# Altium footprint library CONN_B2B.PcbLib: 36 footprints (part 2 of 3)
Each footprint in its own frame and in the unit in brackets; x right, y up, seen from the top. Pads: shape width x height; smd on the part's side, far side on the other; paste and mask are expansions set on the pad; w line width, h text height; cw(c..) or ccw(c..) is an arc to the next point about the centre after c.
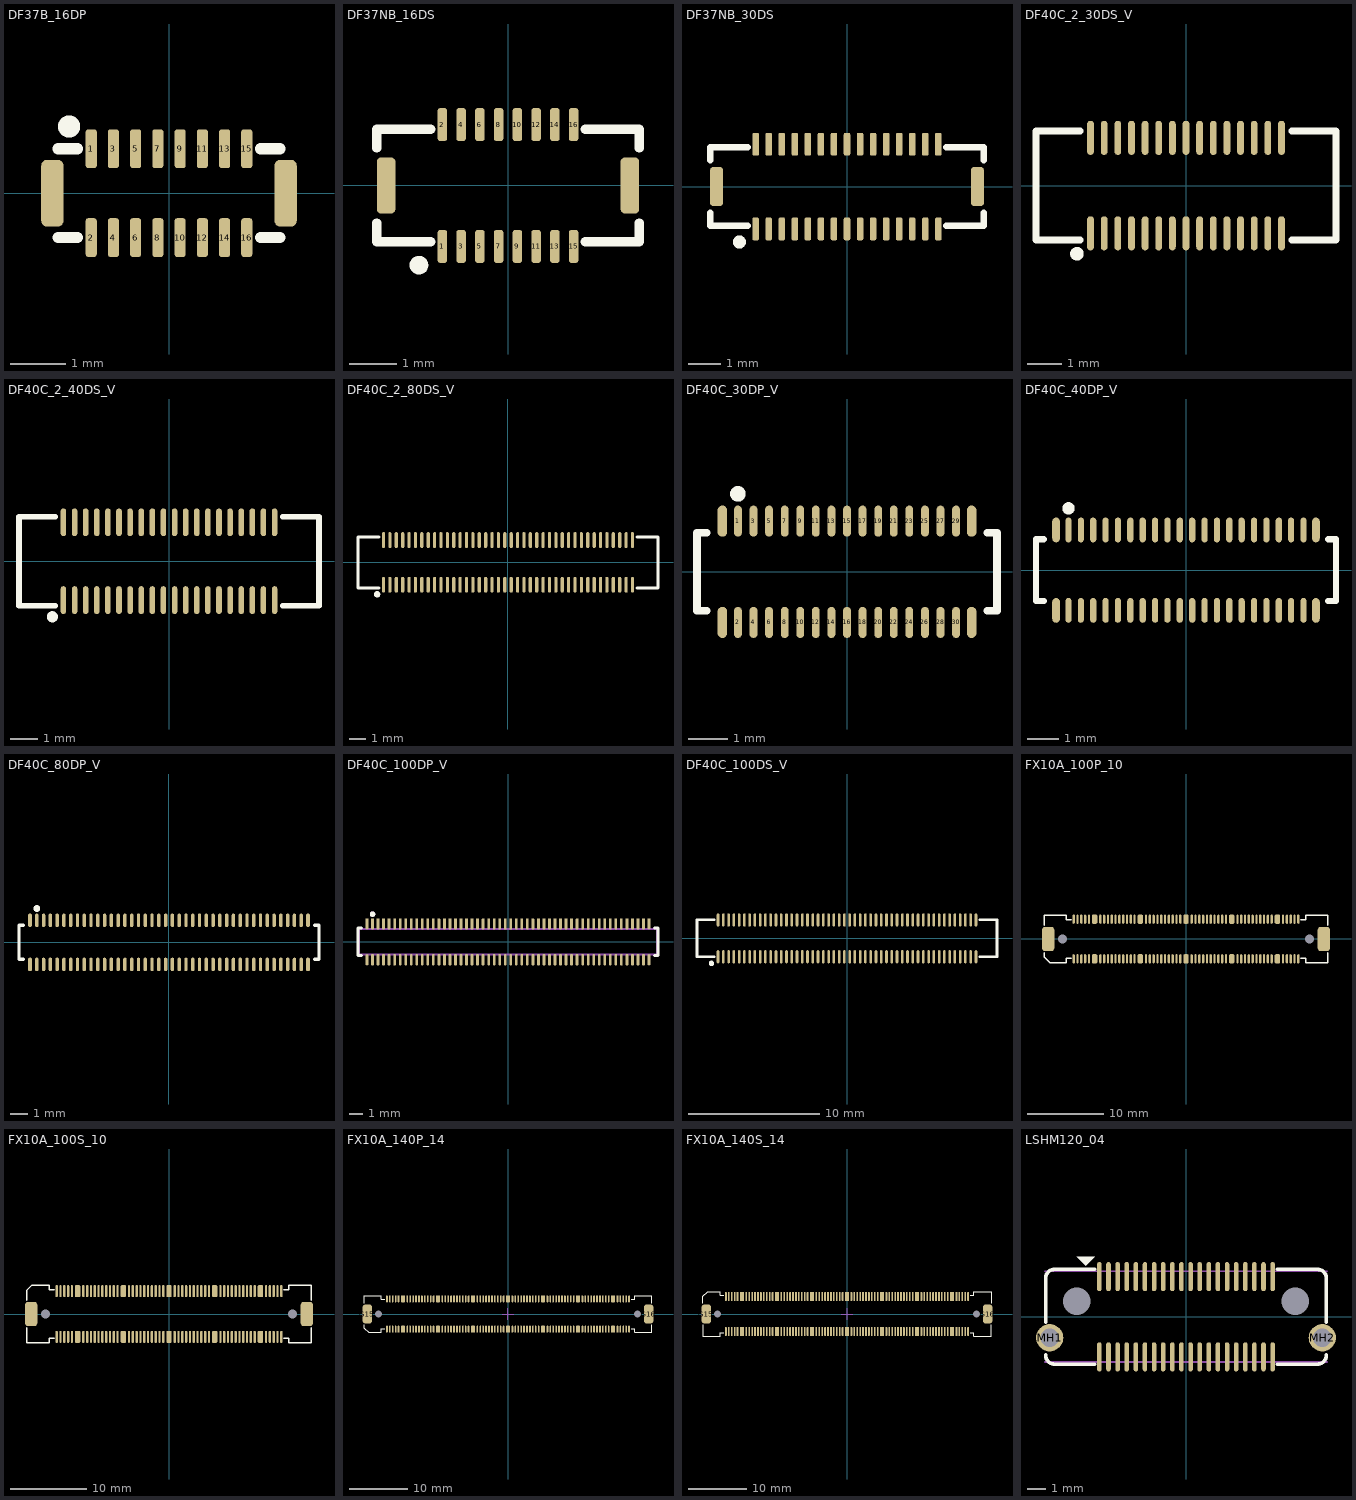
[diagram p1: the footprints below, top view; thin cyan lines are the x and y axes]

## DF37B_16DP [mm] "DF37B-16DP-0.4V"
height 1
pads (18):
  rrect50% 0.2x0.7 smd mask+0.05: 1(-1.4,0.8) 2(-1.4,-0.8) 3(-1,0.8) 4(-1,-0.8) 5(-0.6,0.8) 6(-0.6,-0.8) 7(-0.2,0.8) 8(-0.2,-0.8) 9(0.2,0.8) 10(0.2,-0.8) 11(0.6,0.8) 12(0.6,-0.8) 13(1,0.8) 14(1,-0.8) 15(1.4,0.8) 16(1.4,-0.8)
  rrect50% 0.4x1.2 smd: ""(-2.1,0) ""(2.1,0)
Top Overlay:
  circle w0.2: c-1.8,1.2 r0.1
  lines w0.2: -2,-0.8 -1.65,-0.8 ; -2,0.8 -1.65,0.8 ; 1.65,-0.8 2,-0.8 ; 1.65,0.8 2,0.8
3D body "DF37B-16DP-0.4V.stp": height 0.77, standoff 0.01, extent -2.165,-0.99 2.175,0.99

## DF37NB_16DS [mm] "DF37NB-16DS"
height 1
pads (18):
  rrect50% 0.2x0.7 smd mask+0.05: 1(-1.4,-1.3) 2(-1.4,1.3) 3(-1,-1.3) 4(-1,1.3) 5(-0.6,-1.3) 6(-0.6,1.3) 7(-0.2,-1.3) 8(-0.2,1.3) 9(0.2,-1.3) 10(0.2,1.3) 11(0.6,-1.3) 12(0.6,1.3) 13(1,-1.3) 14(1,1.3) 15(1.4,-1.3) 16(1.4,1.3)
  rrect50% 0.4x1.2 smd: ""(-2.6,0) ""(2.6,0)
Top Overlay:
  circle w0.2: c-1.9,-1.7 r0.1
  lines w0.2: -2.8,-0.8 -2.8,-1.2 -1.65,-1.2 ; -2.8,0.8 -2.8,1.2 -1.65,1.2 ; 1.65,-1.2 2.8,-1.2 2.8,-0.8 ; 1.65,1.2 2.8,1.2 2.8,0.8
3D body "DF37NB-16DS-0.4V.stp": height 0.97, standoff -0.01, extent -2.71,-1.5 2.71,1.48

## DF37NB_30DS [mm] "DF37NB-30DS"
height 1
pads (32):
  rrect50% 0.2x0.7 smd mask+0.05: 1(-2.8,-1.3) 2(-2.8,1.3) 3(-2.4,-1.3) 4(-2.4,1.3) 5(-2,-1.3) 6(-2,1.3) 7(-1.6,-1.3) 8(-1.6,1.3) 9(-1.2,-1.3) 10(-1.2,1.3) 11(-0.8,-1.3) 12(-0.8,1.3) 13(-0.4,-1.3) 14(-0.4,1.3) 15(0,-1.3) 16(0,1.3) 17(0.4,-1.3) 18(0.4,1.3) 19(0.8,-1.3) 20(0.8,1.3) 21(1.2,-1.3) 22(1.2,1.3) 23(1.6,-1.3) 24(1.6,1.3) 25(2,-1.3) 26(2,1.3) 27(2.4,-1.3) 28(2.4,1.3) 29(2.8,-1.3) 30(2.8,1.3)
  rrect50% 0.4x1.2 smd: ""(-4,0) ""(4,0)
Top Overlay:
  circle w0.2: c-3.3,-1.7 r0.1
  lines w0.2: -4.2,-0.8 -4.2,-1.2 -3.05,-1.2 ; -4.2,0.8 -4.2,1.2 -3.05,1.2 ; 3.05,-1.2 4.2,-1.2 4.2,-0.8 ; 3.05,1.2 4.2,1.2 4.2,0.8
3D body "DF37NB-30DS-0.4V.stp": height 0.97, standoff -0.01, extent -4.12,-1.49 4.1,1.49

## DF40C_2_30DS_V [mm] "CONN_DF40C, DF40C(2.0)- 30DS-0.4V(51)"
pads (30):
  oval 0.2x1 smd mask+0.05: 1(-2.8,-1.4) 2(-2.8,1.4) 3(-2.4,-1.4) 4(-2.4,1.4) 5(-2,-1.4) 6(-2,1.4) 7(-1.6,-1.4) 8(-1.6,1.4) 9(-1.2,-1.4) 10(-1.2,1.4) 11(-0.8,-1.4) 12(-0.8,1.4) 13(-0.4,-1.4) 14(-0.4,1.4) 15(0,-1.4) 16(0,1.4) 17(0.4,-1.4) 18(0.4,1.4) 19(0.8,-1.4) 20(0.8,1.4) 21(1.2,-1.4) 22(1.2,1.4) 23(1.6,-1.4) 24(1.6,1.4) 25(2,-1.4) 26(2,1.4) 27(2.4,-1.4) 28(2.4,1.4) 29(2.8,-1.4) 30(2.8,1.4)
Top Overlay:
  circle w0.2: c-3.2,-2 r0.1
  lines w0.2: -3.1,-1.6 -4.4,-1.6 -4.4,1.6 -3.1,1.6 ; 3.1,-1.6 4.4,-1.6 4.4,1.6 3.1,1.6
3D body "DF40C(2.0)-30DS-0.4V.stp": height 1.95, standoff 0, extent -4.3,-1.68 4.3,1.7

## DF40C_2_40DS_V [mm] "CONN_DF40C, DF40C(2.0)- 40DS-0.4V(51)"
pads (40):
  oval 0.2x1 smd mask+0.05: 1(-3.8,-1.4) 2(-3.8,1.4) 3(-3.4,-1.4) 4(-3.4,1.4) 5(-3,-1.4) 6(-3,1.4) 7(-2.6,-1.4) 8(-2.6,1.4) 9(-2.2,-1.4) 10(-2.2,1.4) 11(-1.8,-1.4) 12(-1.8,1.4) 13(-1.4,-1.4) 14(-1.4,1.4) 15(-1,-1.4) 16(-1,1.4) 17(-0.6,-1.4) 18(-0.6,1.4) 19(-0.2,-1.4) 20(-0.2,1.4) 21(0.2,-1.4) 22(0.2,1.4) 23(0.6,-1.4) 24(0.6,1.4) 25(1,-1.4) 26(1,1.4) 27(1.4,-1.4) 28(1.4,1.4) 29(1.8,-1.4) 30(1.8,1.4) 31(2.2,-1.4) 32(2.2,1.4) 33(2.6,-1.4) 34(2.6,1.4) 35(3,-1.4) 36(3,1.4) 37(3.4,-1.4) 38(3.4,1.4) 39(3.8,-1.4) 40(3.8,1.4)
Top Overlay:
  circle w0.2: c-4.2,-2 r0.1
  lines w0.2: -4.1,-1.6 -5.4,-1.6 -5.4,1.6 -4.1,1.6 ; 4.1,-1.6 5.4,-1.6 5.4,1.6 4.1,1.6
3D body "DF40C(2.0)-40DS-0.4V.stp": height 1.95, standoff 0, extent -5.3,-1.7 5.3,1.68

## DF40C_2_80DS_V [mm] "CONN_DF40C, DF40C(2.0)- 80DS-0.4V(51)"
pads (80):
  oval 0.2x1 smd mask+0.05: 1(-7.8,-1.4) 2(-7.8,1.4) 3(-7.4,-1.4) 4(-7.4,1.4) 5(-7,-1.4) 6(-7,1.4) 7(-6.6,-1.4) 8(-6.6,1.4) 9(-6.2,-1.4) 10(-6.2,1.4) 11(-5.8,-1.4) 12(-5.8,1.4) 13(-5.4,-1.4) 14(-5.4,1.4) 15(-5,-1.4) 16(-5,1.4) 17(-4.6,-1.4) 18(-4.6,1.4) 19(-4.2,-1.4) 20(-4.2,1.4) 21(-3.8,-1.4) 22(-3.8,1.4) 23(-3.4,-1.4) 24(-3.4,1.4) 25(-3,-1.4) 26(-3,1.4) 27(-2.6,-1.4) 28(-2.6,1.4) 29(-2.2,-1.4) 30(-2.2,1.4) 31(-1.8,-1.4) 32(-1.8,1.4) 33(-1.4,-1.4) 34(-1.4,1.4) 35(-1,-1.4) 36(-1,1.4) 37(-0.6,-1.4) 38(-0.6,1.4) 39(-0.2,-1.4) 40(-0.2,1.4) 41(0.2,-1.4) 42(0.2,1.4) 43(0.6,-1.4) 44(0.6,1.4) 45(1,-1.4) 46(1,1.4) 47(1.4,-1.4) 48(1.4,1.4) 49(1.8,-1.4) 50(1.8,1.4) 51(2.2,-1.4) 52(2.2,1.4) 53(2.6,-1.4) 54(2.6,1.4) 55(3,-1.4) 56(3,1.4) 57(3.4,-1.4) 58(3.4,1.4) 59(3.8,-1.4) 60(3.8,1.4) 61(4.2,-1.4) 62(4.2,1.4) 63(4.6,-1.4) 64(4.6,1.4) 65(5,-1.4) 66(5,1.4) 67(5.4,-1.4) 68(5.4,1.4) 69(5.8,-1.4) 70(5.8,1.4) 71(6.2,-1.4) 72(6.2,1.4) 73(6.6,-1.4) 74(6.6,1.4) 75(7,-1.4) 76(7,1.4) 77(7.4,-1.4) 78(7.4,1.4) 79(7.8,-1.4) 80(7.8,1.4)
Top Overlay:
  circle w0.2: c-8.2,-2 r0.1
  lines w0.2: -8.1,-1.6 -9.4,-1.6 -9.4,1.6 -8.1,1.6 ; 8.1,-1.6 9.4,-1.6 9.4,1.6 8.1,1.6
3D body "DF40C(2.0)-80DS.stp": height 1.94, standoff 0, extent -9.305,-1.69 9.295,1.69

## DF40C_30DP_V [mm] "CONN_DF40C, DF40C- 30DP-0.4V(51)"
pads (34):
  oval 0.2x0.8 smd mask+0.05: 1(-2.8,1.3) 2(-2.8,-1.3) 3(-2.4,1.3) 4(-2.4,-1.3) 5(-2,1.3) 6(-2,-1.3) 7(-1.6,1.3) 8(-1.6,-1.3) 9(-1.2,1.3) 10(-1.2,-1.3) 11(-0.8,1.3) 12(-0.8,-1.3) 13(-0.4,1.3) 14(-0.4,-1.3) 15(0,1.3) 16(0,-1.3) 17(0.4,1.3) 18(0.4,-1.3) 19(0.8,1.3) 20(0.8,-1.3) 21(1.2,1.3) 22(1.2,-1.3) 23(1.6,1.3) 24(1.6,-1.3) 25(2,1.3) 26(2,-1.3) 27(2.4,1.3) 28(2.4,-1.3) 29(2.8,1.3) 30(2.8,-1.3)
  oval 0.25x0.8 smd mask+0.05: ""(-3.2,-1.3) ""(-3.2,1.3) ""(3.2,-1.3) ""(3.2,1.3)
Top Overlay:
  circle w0.2: c-2.8,2 r0.1
  lines w0.2: -3.6,-1 -3.85,-1 -3.85,1 -3.6,1 ; 3.6,-1 3.85,-1 3.85,1 3.6,1
3D body "DF40C-30DP.stp": height 1.14, standoff 0, extent -3.76,-1.497 3.76,1.473

## DF40C_40DP_V [mm] "CONN_DF40C, DF40C- 40DP-0.4V(51)"
pads (44):
  oval 0.2x0.8 smd mask+0.05: 1(-3.8,1.3) 2(-3.8,-1.3) 3(-3.4,1.3) 4(-3.4,-1.3) 5(-3,1.3) 6(-3,-1.3) 7(-2.6,1.3) 8(-2.6,-1.3) 9(-2.2,1.3) 10(-2.2,-1.3) 11(-1.8,1.3) 12(-1.8,-1.3) 13(-1.4,1.3) 14(-1.4,-1.3) 15(-1,1.3) 16(-1,-1.3) 17(-0.6,1.3) 18(-0.6,-1.3) 19(-0.2,1.3) 20(-0.2,-1.3) 21(0.2,1.3) 22(0.2,-1.3) 23(0.6,1.3) 24(0.6,-1.3) 25(1,1.3) 26(1,-1.3) 27(1.4,1.3) 28(1.4,-1.3) 29(1.8,1.3) 30(1.8,-1.3) 31(2.2,1.3) 32(2.2,-1.3) 33(2.6,1.3) 34(2.6,-1.3) 35(3,1.3) 36(3,-1.3) 37(3.4,1.3) 38(3.4,-1.3) 39(3.8,1.3) 40(3.8,-1.3)
  oval 0.25x0.8 smd mask+0.05: ""(-4.2,-1.3) ""(-4.2,1.3) ""(4.2,-1.3) ""(4.2,1.3)
Top Overlay:
  circle w0.2: c-3.8,2 r0.1
  lines w0.2: -4.6,-1 -4.85,-1 -4.85,1 -4.6,1 ; 4.6,-1 4.85,-1 4.85,1 4.6,1
3D body "DF40C-40DP.stp": height 1.14, standoff 0, extent -4.76,-1.495 4.76,1.475

## DF40C_80DP_V [mm] "CONN_DF40C, DF40C-80DP-0.4V(51)"
pads (84):
  oval 0.2x0.8 smd mask+0.05: 1(-7.8,1.3) 2(-7.8,-1.3) 3(-7.4,1.3) 4(-7.4,-1.3) 5(-7,1.3) 6(-7,-1.3) 7(-6.6,1.3) 8(-6.6,-1.3) 9(-6.2,1.3) 10(-6.2,-1.3) 11(-5.8,1.3) 12(-5.8,-1.3) 13(-5.4,1.3) 14(-5.4,-1.3) 15(-5,1.3) 16(-5,-1.3) 17(-4.6,1.3) 18(-4.6,-1.3) 19(-4.2,1.3) 20(-4.2,-1.3) 21(-3.8,1.3) 22(-3.8,-1.3) 23(-3.4,1.3) 24(-3.4,-1.3) 25(-3,1.3) 26(-3,-1.3) 27(-2.6,1.3) 28(-2.6,-1.3) 29(-2.2,1.3) 30(-2.2,-1.3) 31(-1.8,1.3) 32(-1.8,-1.3) 33(-1.4,1.3) 34(-1.4,-1.3) 35(-1,1.3) 36(-1,-1.3) 37(-0.6,1.3) 38(-0.6,-1.3) 39(-0.2,1.3) 40(-0.2,-1.3) 41(0.2,1.3) 42(0.2,-1.3) 43(0.6,1.3) 44(0.6,-1.3) 45(1,1.3) 46(1,-1.3) 47(1.4,1.3) 48(1.4,-1.3) 49(1.8,1.3) 50(1.8,-1.3) 51(2.2,1.3) 52(2.2,-1.3) 53(2.6,1.3) 54(2.6,-1.3) 55(3,1.3) 56(3,-1.3) 57(3.4,1.3) 58(3.4,-1.3) 59(3.8,1.3) 60(3.8,-1.3) 61(4.2,1.3) 62(4.2,-1.3) 63(4.6,1.3) 64(4.6,-1.3) 65(5,1.3) 66(5,-1.3) 67(5.4,1.3) 68(5.4,-1.3) 69(5.8,1.3) 70(5.8,-1.3) 71(6.2,1.3) 72(6.2,-1.3) 73(6.6,1.3) 74(6.6,-1.3) 75(7,1.3) 76(7,-1.3) 77(7.4,1.3) 78(7.4,-1.3) 79(7.8,1.3) 80(7.8,-1.3)
  oval 0.25x0.8 smd mask+0.05: ""(-8.2,-1.3) ""(-8.2,1.3) ""(8.2,-1.3) ""(8.2,1.3)
Top Overlay:
  circle w0.2: c-7.8,2 r0.1
  lines w0.2: -8.6,-1 -8.85,-1 -8.85,1 -8.6,1 ; 8.6,-1 8.85,-1 8.85,1 8.6,1
3D body "DF40C-80DP.stp": height 1.14, standoff 0, extent -8.76,-1.5 8.76,1.47

## DF40C_100DP_V [mm] "CONN_DF40C, DF40C-100DP-0.4V"
pads (104):
  rrect50% 0.2x0.8 smd mask+0.05: 1(-9.8,1.3) 2(-9.8,-1.3) 3(-9.4,1.3) 4(-9.4,-1.3) 5(-9,1.3) 6(-9,-1.3) 7(-8.6,1.3) 8(-8.6,-1.3) 9(-8.2,1.3) 10(-8.2,-1.3) 11(-7.8,1.3) 12(-7.8,-1.3) 13(-7.4,1.3) 14(-7.4,-1.3) 15(-7,1.3) 16(-7,-1.3) 17(-6.6,1.3) 18(-6.6,-1.3) 19(-6.2,1.3) 20(-6.2,-1.3) 21(-5.8,1.3) 22(-5.8,-1.3) 23(-5.4,1.3) 24(-5.4,-1.3) 25(-5,1.3) 26(-5,-1.3) 27(-4.6,1.3) 28(-4.6,-1.3) 29(-4.2,1.3) 30(-4.2,-1.3) 31(-3.8,1.3) 32(-3.8,-1.3) 33(-3.4,1.3) 34(-3.4,-1.3) 35(-3,1.3) 36(-3,-1.3) 37(-2.6,1.3) 38(-2.6,-1.3) 39(-2.2,1.3) 40(-2.2,-1.3) 41(-1.8,1.3) 42(-1.8,-1.3) 43(-1.4,1.3) 44(-1.4,-1.3) 45(-1,1.3) 46(-1,-1.3) 47(-0.6,1.3) 48(-0.6,-1.3) 49(-0.2,1.3) 50(-0.2,-1.3) 51(0.2,1.3) 52(0.2,-1.3) 53(0.6,1.3) 54(0.6,-1.3) 55(1,1.3) 56(1,-1.3) 57(1.4,1.3) 58(1.4,-1.3) 59(1.8,1.3) 60(1.8,-1.3) 61(2.2,1.3) 62(2.2,-1.3) 63(2.6,1.3) 64(2.6,-1.3) 65(3,1.3) 66(3,-1.3) 67(3.4,1.3) 68(3.4,-1.3) 69(3.8,1.3) 70(3.8,-1.3) 71(4.2,1.3) 72(4.2,-1.3) 73(4.6,1.3) 74(4.6,-1.3) 75(5,1.3) 76(5,-1.3) 77(5.4,1.3) 78(5.4,-1.3) 79(5.8,1.3) 80(5.8,-1.3) 81(6.2,1.3) 82(6.2,-1.3) 83(6.6,1.3) 84(6.6,-1.3) 85(7,1.3) 86(7,-1.3) 87(7.4,1.3) 88(7.4,-1.3) 89(7.8,1.3) 90(7.8,-1.3) 91(8.2,1.3) 92(8.2,-1.3) 93(8.6,1.3) 94(8.6,-1.3) 95(9,1.3) 96(9,-1.3) 97(9.4,1.3) 98(9.4,-1.3) 99(9.8,1.3) 100(9.8,-1.3)
  oval 0.25x0.8 smd mask+0.05: ""(-10.2,-1.3) ""(-10.2,1.3) ""(10.2,-1.3) ""(10.2,1.3)
Top Overlay:
  circle w0.2: c-9.8,2 r0.1
  lines w0.2: -10.6,-1 -10.85,-1 -10.85,1 -10.6,1 ; 10.6,-1 10.85,-1 10.85,1 10.6,1
Mechanical 13:
  circle w0.2: c-9.8,2 r0.1
  lines w0.127: -10.76,-0.925 10.76,-0.925 10.76,0.925 -10.76,0.925 -10.76,-0.925
3D body "DF40C-100DP.stp": height 1.14, standoff 0, extent -10.76,-1.5 10.76,1.47

## DF40C_100DS_V [mm] "CONN_DF40C, DF40C- 100DS-0.4V(51)"
pads (100):
  oval 0.2x1 smd mask+0.05: 1(-9.8,-1.4) 2(-9.8,1.4) 3(-9.4,-1.4) 4(-9.4,1.4) 5(-9,-1.4) 6(-9,1.4) 7(-8.6,-1.4) 8(-8.6,1.4) 9(-8.2,-1.4) 10(-8.2,1.4) 11(-7.8,-1.4) 12(-7.8,1.4) 13(-7.4,-1.4) 14(-7.4,1.4) 15(-7,-1.4) 16(-7,1.4) 17(-6.6,-1.4) 18(-6.6,1.4) 19(-6.2,-1.4) 20(-6.2,1.4) 21(-5.8,-1.4) 22(-5.8,1.4) 23(-5.4,-1.4) 24(-5.4,1.4) 25(-5,-1.4) 26(-5,1.4) 27(-4.6,-1.4) 28(-4.6,1.4) 29(-4.2,-1.4) 30(-4.2,1.4) 31(-3.8,-1.4) 32(-3.8,1.4) 33(-3.4,-1.4) 34(-3.4,1.4) 35(-3,-1.4) 36(-3,1.4) 37(-2.6,-1.4) 38(-2.6,1.4) 39(-2.2,-1.4) 40(-2.2,1.4) 41(-1.8,-1.4) 42(-1.8,1.4) 43(-1.4,-1.4) 44(-1.4,1.4) 45(-1,-1.4) 46(-1,1.4) 47(-0.6,-1.4) 48(-0.6,1.4) 49(-0.2,-1.4) 50(-0.2,1.4) 51(0.2,-1.4) 52(0.2,1.4) 53(0.6,-1.4) 54(0.6,1.4) 55(1,-1.4) 56(1,1.4) 57(1.4,-1.4) 58(1.4,1.4) 59(1.8,-1.4) 60(1.8,1.4) 61(2.2,-1.4) 62(2.2,1.4) 63(2.6,-1.4) 64(2.6,1.4) 65(3,-1.4) 66(3,1.4) 67(3.4,-1.4) 68(3.4,1.4) 69(3.8,-1.4) 70(3.8,1.4) 71(4.2,-1.4) 72(4.2,1.4) 73(4.6,-1.4) 74(4.6,1.4) 75(5,-1.4) 76(5,1.4) 77(5.4,-1.4) 78(5.4,1.4) 79(5.8,-1.4) 80(5.8,1.4) 81(6.2,-1.4) 82(6.2,1.4) 83(6.6,-1.4) 84(6.6,1.4) 85(7,-1.4) 86(7,1.4) 87(7.4,-1.4) 88(7.4,1.4) 89(7.8,-1.4) 90(7.8,1.4) 91(8.2,-1.4) 92(8.2,1.4) 93(8.6,-1.4) 94(8.6,1.4) 95(9,-1.4) 96(9,1.4) 97(9.4,-1.4) 98(9.4,1.4) 99(9.8,-1.4) 100(9.8,1.4)
Top Overlay:
  circle w0.2: c-10.3,-1.9 r0.1
  lines w0.2: -10.1,-1.4 -11.4,-1.4 -11.4,1.4 -10.1,1.4 ; 10.1,-1.4 11.4,-1.4 11.4,1.4 10.1,1.4
3D body "DF40C-100DS.stp": height 1.4, standoff -0.05, extent -11.3,-1.69 11.3,1.69

## FX10A_100P_10 [mm] "FX10A-100P/10-SV(71)"
pads (114):
  oval 0.3x1.2 smd mask+0.05: 1(-14.75,-2.6) 2(-14.75,2.6) 3(-14.25,-2.6) 4(-14.25,2.6) 5(-13.75,-2.6) 6(-13.75,2.6) 7(-13.25,-2.6) 8(-13.25,2.6) 9(-12.75,-2.6) 10(-12.75,2.6) 11(-11.25,-2.6) 12(-11.25,2.6) 13(-10.75,-2.6) 14(-10.75,2.6) 15(-10.25,-2.6) 16(-10.25,2.6) 17(-9.75,-2.6) 18(-9.75,2.6) 19(-9.25,-2.6) 20(-9.25,2.6) 21(-8.75,-2.6) 22(-8.75,2.6) 23(-8.25,-2.6) 24(-8.25,2.6) 25(-7.75,-2.6) 26(-7.75,2.6) 27(-7.25,-2.6) 28(-7.25,2.6) 29(-6.75,-2.6) 30(-6.75,2.6) 31(-5.25,-2.6) 32(-5.25,2.6) 33(-4.75,-2.6) 34(-4.75,2.6) 35(-4.25,-2.6) 36(-4.25,2.6) 37(-3.75,-2.6) 38(-3.75,2.6) 39(-3.25,-2.6) 40(-3.25,2.6) 41(-2.75,-2.6) 42(-2.75,2.6) 43(-2.25,-2.6) 44(-2.25,2.6) 45(-1.75,-2.6) 46(-1.75,2.6) 47(-1.25,-2.6) 48(-1.25,2.6) 49(-0.75,-2.6) 50(-0.75,2.6) 51(0.75,-2.6) 52(0.75,2.6) 53(1.25,-2.6) 54(1.25,2.6) 55(1.75,-2.6) 56(1.75,2.6) 57(2.25,-2.6) 58(2.25,2.6) 59(2.75,-2.6) 60(2.75,2.6) 61(3.25,-2.6) 62(3.25,2.6) 63(3.75,-2.6) 64(3.75,2.6) 65(4.25,-2.6) 66(4.25,2.6) 67(4.75,-2.6) 68(4.75,2.6) 69(5.25,-2.6) 70(5.25,2.6) 71(6.75,-2.6) 72(6.75,2.6) 73(7.25,-2.6) 74(7.25,2.6) 75(7.75,-2.6) 76(7.75,2.6) 77(8.25,-2.6) 78(8.25,2.6) 79(8.75,-2.6) 80(8.75,2.6) 81(9.25,-2.6) 82(9.25,2.6) 83(9.75,-2.6) 84(9.75,2.6) 85(10.25,-2.6) 86(10.25,2.6) 87(10.75,-2.6) 88(10.75,2.6) 89(11.25,-2.6) 90(11.25,2.6) 91(12.75,-2.6) 92(12.75,2.6) 93(13.25,-2.6) 94(13.25,2.6) 95(13.75,-2.6) 96(13.75,2.6) 97(14.25,-2.6) 98(14.25,2.6) 99(14.75,-2.6) 100(14.75,2.6)
  rrect50% 0.7x1.2 smd: G0(-12,-2.6) G1(-12,2.6) G2(-6,-2.6) G3(-6,2.6) G4(0,-2.6) G5(0,2.6) G6(6,-2.6) G7(6,2.6) G8(12,-2.6) G9(12,2.6)
  rrect50% 1.6x3.2 smd mask+0.075: ""(-18.1,0) ""(18.1,0)
  round 0.5 hole 1.2 unplated: ""(-16.2,0) ""(16.2,0)
Top Overlay:
  lines w0.2: -18.6,-1.8 -18.6,-2.4 -17.9,-3.1 -15.7,-3.1 -15.7,-2.5 -15.1,-2.5 ; -18.6,1.8 -18.6,3.1 -15.7,3.1 -15.7,2.5 -15.1,2.5 ; 15.1,-2.5 15.7,-2.5 15.7,-3.1 18.6,-3.1 18.6,-1.8 ; 15.1,2.5 15.7,2.5 15.7,3.1 18.6,3.1 18.6,1.8
3D body "FX10A-100P10-SV.stp": height 3.51, standoff -0.59, extent -18.5,-2.95 18.6,2.95

## FX10A_100S_10 [mm] "FX10A-100S/10-SV(71)"
pads (114):
  oval 0.3x1.6 smd mask+0.05: 1(-14.75,3) 2(-14.75,-3) 3(-14.25,3) 4(-14.25,-3) 5(-13.75,3) 6(-13.75,-3) 7(-13.25,3) 8(-13.25,-3) 9(-12.75,3) 10(-12.75,-3) 11(-11.25,3) 12(-11.25,-3) 13(-10.75,3) 14(-10.75,-3) 15(-10.25,3) 16(-10.25,-3) 17(-9.75,3) 18(-9.75,-3) 19(-9.25,3) 20(-9.25,-3) 21(-8.75,3) 22(-8.75,-3) 23(-8.25,3) 24(-8.25,-3) 25(-7.75,3) 26(-7.75,-3) 27(-7.25,3) 28(-7.25,-3) 29(-6.75,3) 30(-6.75,-3) 31(-5.25,3) 32(-5.25,-3) 33(-4.75,3) 34(-4.75,-3) 35(-4.25,3) 36(-4.25,-3) 37(-3.75,3) 38(-3.75,-3) 39(-3.25,3) 40(-3.25,-3) 41(-2.75,3) 42(-2.75,-3) 43(-2.25,3) 44(-2.25,-3) 45(-1.75,3) 46(-1.75,-3) 47(-1.25,3) 48(-1.25,-3) 49(-0.75,3) 50(-0.75,-3) 51(0.75,3) 52(0.75,-3) 53(1.25,3) 54(1.25,-3) 55(1.75,3) 56(1.75,-3) 57(2.25,3) 58(2.25,-3) 59(2.75,3) 60(2.75,-3) 61(3.25,3) 62(3.25,-3) 63(3.75,3) 64(3.75,-3) 65(4.25,3) 66(4.25,-3) 67(4.75,3) 68(4.75,-3) 69(5.25,3) 70(5.25,-3) 71(6.75,3) 72(6.75,-3) 73(7.25,3) 74(7.25,-3) 75(7.75,3) 76(7.75,-3) 77(8.25,3) 78(8.25,-3) 79(8.75,3) 80(8.75,-3) 81(9.25,3) 82(9.25,-3) 83(9.75,3) 84(9.75,-3) 85(10.25,3) 86(10.25,-3) 87(10.75,3) 88(10.75,-3) 89(11.25,3) 90(11.25,-3) 91(12.75,3) 92(12.75,-3) 93(13.25,3) 94(13.25,-3) 95(13.75,3) 96(13.75,-3) 97(14.25,3) 98(14.25,-3) 99(14.75,3) 100(14.75,-3)
  rrect50% 0.7x1.6 smd: G0(-12,3) G1(-12,-3) G2(-6,3) G3(-6,-3) G4(0,3) G5(0,-3) G6(6,3) G7(6,-3) G8(12,3) G9(12,-3)
  rrect50% 1.6x3.2 smd mask+0.075: ""(-18.1,0) ""(18.1,0)
  round 0.5 hole 1.2 unplated: ""(-16.2,0) ""(16.2,0)
Top Overlay:
  lines w0.2: -18.7,-1.8 -18.7,-3.8 -15.7,-3.8 -15.7,-3.2 -15.1,-3.2 ; -18.7,1.8 -18.7,3.1 -18,3.8 -15.7,3.8 -15.7,3.2 -15.1,3.2 ; 15.1,-3.2 15.7,-3.2 15.7,-3.8 18.7,-3.8 18.7,-1.8 ; 15.1,3.2 15.7,3.2 15.7,3.8 18.7,3.8 18.7,1.8
3D body "FX10A-100S10-SV.stp": height 3.22, standoff -0.58, extent -18.6,-3.65 18.5,3.65

## FX10A_140P_14 [mm] "FX10A-140P/14-SV(71) HIROSE"
height 4
pads (158):
  oval 0.3x1.2 smd mask+0.075: 1(-20.75,-2.6) 2(-20.75,2.6) 3(-20.25,-2.6) 4(-20.25,2.6) 5(-19.75,-2.6) 6(-19.75,2.6) 7(-19.25,-2.6) 8(-19.25,2.6) 9(-18.75,-2.6) 10(-18.75,2.6) 11(-17.25,-2.6) 12(-17.25,2.6) 13(-16.75,-2.6) 14(-16.75,2.6) 15(-16.25,-2.6) 16(-16.25,2.6) 17(-15.75,-2.6) 18(-15.75,2.6) 19(-15.25,-2.6) 20(-15.25,2.6) 21(-14.75,-2.6) 22(-14.75,2.6) 23(-14.25,-2.6) 24(-14.25,2.6) 25(-13.75,-2.6) 26(-13.75,2.6) 27(-13.25,-2.6) 28(-13.25,2.6) 29(-12.75,-2.6) 30(-12.75,2.6) 31(-11.25,-2.6) 32(-11.25,2.6) 33(-10.75,-2.6) 34(-10.75,2.6) 35(-10.25,-2.6) 36(-10.25,2.6) 37(-9.75,-2.6) 38(-9.75,2.6) 39(-9.25,-2.6) 40(-9.25,2.6) 41(-8.75,-2.6) 42(-8.75,2.6) 43(-8.25,-2.6) 44(-8.25,2.6) 45(-7.75,-2.6) 46(-7.75,2.6) 47(-7.25,-2.6) 48(-7.25,2.6) 49(-6.75,-2.6) 50(-6.75,2.6) 51(-5.25,-2.6) 52(-5.25,2.6) 53(-4.75,-2.6) 54(-4.75,2.6) 55(-4.25,-2.6) 56(-4.25,2.6) 57(-3.75,-2.6) 58(-3.75,2.6) 59(-3.25,-2.6) 60(-3.25,2.6) 61(-2.75,-2.6) 62(-2.75,2.6) 63(-2.25,-2.6) 64(-2.25,2.6) 65(-1.75,-2.6) 66(-1.75,2.6) 67(-1.25,-2.6) 68(-1.25,2.6) 69(-0.75,-2.6) 70(-0.75,2.6) 71(0.75,-2.6) 72(0.75,2.6) 73(1.25,-2.6) 74(1.25,2.6) 75(1.75,-2.6) 76(1.75,2.6) 77(2.25,-2.6) 78(2.25,2.6) 79(2.75,-2.6) 80(2.75,2.6) 81(3.25,-2.6) 82(3.25,2.6) 83(3.75,-2.6) 84(3.75,2.6) 85(4.25,-2.6) 86(4.25,2.6) 87(4.75,-2.6) 88(4.75,2.6) 89(5.25,-2.6) 90(5.25,2.6) 91(6.75,-2.6) 92(6.75,2.6) 93(7.25,-2.6) 94(7.25,2.6) 95(7.75,-2.6) 96(7.75,2.6) 97(8.25,-2.6) 98(8.25,2.6) 99(8.75,-2.6) 100(8.75,2.6) 101(9.25,-2.6) 102(9.25,2.6) 103(9.75,-2.6) 104(9.75,2.6) 105(10.25,-2.6) 106(10.25,2.6) 107(10.75,-2.6) 108(10.75,2.6) 109(11.25,-2.6) 110(11.25,2.6) 111(12.75,-2.6) 112(12.75,2.6) 113(13.25,-2.6) 114(13.25,2.6) 115(13.75,-2.6) 116(13.75,2.6) 117(14.25,-2.6) 118(14.25,2.6) 119(14.75,-2.6) 120(14.75,2.6) 121(15.25,-2.6) 122(15.25,2.6) 123(15.75,-2.6) 124(15.75,2.6) 125(16.25,-2.6) 126(16.25,2.6) 127(16.75,-2.6) 128(16.75,2.6) 129(17.25,-2.6) 130(17.25,2.6) 131(18.75,-2.6) 132(18.75,2.6) 133(19.25,-2.6) 134(19.25,2.6) 135(19.75,-2.6) 136(19.75,2.6) 137(20.25,-2.6) 138(20.25,2.6) 139(20.75,-2.6) 140(20.75,2.6)
  rrect50% 0.7x1.2 smd mask+0.075: G1(-18,-2.6) G2(-18,2.6) G3(-12,-2.6) G4(-12,2.6) G5(-6,-2.6) G6(-6,2.6) G7(0,-2.6) G8(0,2.6) G9(6,-2.6) G10(6,2.6) G11(12,-2.6) G12(12,2.6) G13(18,-2.6) G14(18,2.6)
  rrect50% 1.6x3.2 smd mask+0.075: G15(-24.1,0) G16(24.1,0)
  round 0.5 hole 1.2 unplated: ""(-22.2,0) ""(22.2,0)
Top Overlay:
  lines w0.2: -24.6,-1.8 -24.6,-2.4 -23.9,-3.1 -21.7,-3.1 -21.7,-2.5 -21.1,-2.5 ; -24.6,1.8 -24.6,3.1 -21.7,3.1 -21.7,2.5 -21.1,2.5 ; 21.1,-2.5 21.7,-2.5 21.7,-3.1 24.6,-3.1 24.6,-1.8 ; 21.1,2.5 21.7,2.5 21.7,3.1 24.6,3.1 24.6,1.8
Mechanical 13:
  lines w0.1: -1,0 1,0 ; 0,-1 0,1
3D body "FX10A-140P14-SV.stp": height 3.51, standoff -0.59, extent -24.55,-2.95 24.55,2.95

## FX10A_140S_14 [mm] "FX10A-140S/14-SV HIROSE"
height 4
pads (158):
  oval 0.3x1.6 smd mask+0.075: 1(-20.75,3) 2(-20.75,-3) 3(-20.25,3) 4(-20.25,-3) 5(-19.75,3) 6(-19.75,-3) 7(-19.25,3) 8(-19.25,-3) 9(-18.75,3) 10(-18.75,-3) 11(-17.25,3) 12(-17.25,-3) 13(-16.75,3) 14(-16.75,-3) 15(-16.25,3) 16(-16.25,-3) 17(-15.75,3) 18(-15.75,-3) 19(-15.25,3) 20(-15.25,-3) 21(-14.75,3) 22(-14.75,-3) 23(-14.25,3) 24(-14.25,-3) 25(-13.75,3) 26(-13.75,-3) 27(-13.25,3) 28(-13.25,-3) 29(-12.75,3) 30(-12.75,-3) 31(-11.25,3) 32(-11.25,-3) 33(-10.75,3) 34(-10.75,-3) 35(-10.25,3) 36(-10.25,-3) 37(-9.75,3) 38(-9.75,-3) 39(-9.25,3) 40(-9.25,-3) 41(-8.75,3) 42(-8.75,-3) 43(-8.25,3) 44(-8.25,-3) 45(-7.75,3) 46(-7.75,-3) 47(-7.25,3) 48(-7.25,-3) 49(-6.75,3) 50(-6.75,-3) 51(-5.25,3) 52(-5.25,-3) 53(-4.75,3) 54(-4.75,-3) 55(-4.25,3) 56(-4.25,-3) 57(-3.75,3) 58(-3.75,-3) 59(-3.25,3) 60(-3.25,-3) 61(-2.75,3) 62(-2.75,-3) 63(-2.25,3) 64(-2.25,-3) 65(-1.75,3) 66(-1.75,-3) 67(-1.25,3) 68(-1.25,-3) 69(-0.75,3) 70(-0.75,-3) 71(0.75,3) 72(0.75,-3) 73(1.25,3) 74(1.25,-3) 75(1.75,3) 76(1.75,-3) 77(2.25,3) 78(2.25,-3) 79(2.75,3) 80(2.75,-3) 81(3.25,3) 82(3.25,-3) 83(3.75,3) 84(3.75,-3) 85(4.25,3) 86(4.25,-3) 87(4.75,3) 88(4.75,-3) 89(5.25,3) 90(5.25,-3) 91(6.75,3) 92(6.75,-3) 93(7.25,3) 94(7.25,-3) 95(7.75,3) 96(7.75,-3) 97(8.25,3) 98(8.25,-3) 99(8.75,3) 100(8.75,-3) 101(9.25,3) 102(9.25,-3) 103(9.75,3) 104(9.75,-3) 105(10.25,3) 106(10.25,-3) 107(10.75,3) 108(10.75,-3) 109(11.25,3) 110(11.25,-3) 111(12.75,3) 112(12.75,-3) 113(13.25,3) 114(13.25,-3) 115(13.75,3) 116(13.75,-3) 117(14.25,3) 118(14.25,-3) 119(14.75,3) 120(14.75,-3) 121(15.25,3) 122(15.25,-3) 123(15.75,3) 124(15.75,-3) 125(16.25,3) 126(16.25,-3) 127(16.75,3) 128(16.75,-3) 129(17.25,3) 130(17.25,-3) 131(18.75,3) 132(18.75,-3) 133(19.25,3) 134(19.25,-3) 135(19.75,3) 136(19.75,-3) 137(20.25,3) 138(20.25,-3) 139(20.75,3) 140(20.75,-3)
  rrect50% 0.7x1.6 smd mask+0.075: G1(-18,3) G2(-18,-3) G3(-12,3) G4(-12,-3) G5(-6,3) G6(-6,-3) G7(0,3) G8(0,-3) G9(6,3) G10(6,-3) G11(12,3) G12(12,-3) G13(18,3) G14(18,-3)
  rrect50% 1.6x3.2 smd mask+0.075: G15(-24.1,0) G16(24.1,0)
  round 0.5 hole 1.2 unplated: ""(-22.2,0) ""(22.2,0)
Top Overlay:
  lines w0.2: -24.7,-1.8 -24.7,-3.8 -21.7,-3.8 -21.7,-3.2 -21.1,-3.2 ; -24.7,1.8 -24.7,3 -23.9,3.8 -21.7,3.8 -21.7,3.2 -21.1,3.2 ; 21.1,-3.2 21.7,-3.2 21.7,-3.8 24.7,-3.8 24.7,-1.8 ; 21.1,3.2 21.7,3.2 21.7,3.8 24.7,3.8 24.7,1.8
Mechanical 13:
  lines w0.1: -1,0 1,0 ; 0,-1 0,1
3D body "FX10A-140S14-SV.stp": height 3.22, standoff -0.58, extent -24.55,-3.65 24.55,3.65

## LSHM120_04 [mm] "LSHM-120-04.0-L-DV-A-S"
pads (44):
  oval 0.25x1.6 smd mask+0.05: 1(-4.75,2.2) 2(-4.75,-2.2) 3(-4.25,2.2) 4(-4.25,-2.2) 5(-3.75,2.2) 6(-3.75,-2.2) 7(-3.25,2.2) 8(-3.25,-2.2) 9(-2.75,2.2) 10(-2.75,-2.2) 11(-2.25,2.2) 12(-2.25,-2.2) 13(-1.75,2.2) 14(-1.75,-2.2) 15(-1.25,2.2) 16(-1.25,-2.2) 17(-0.75,2.2) 18(-0.75,-2.2) 19(-0.25,2.2) 20(-0.25,-2.2) 21(0.25,2.2) 22(0.25,-2.2) 23(0.75,2.2) 24(0.75,-2.2) 25(1.25,2.2) 26(1.25,-2.2) 27(1.75,2.2) 28(1.75,-2.2) 29(2.25,2.2) 30(2.25,-2.2) 31(2.75,2.2) 32(2.75,-2.2) 33(3.25,2.2) 34(3.25,-2.2) 35(3.75,2.2) 36(3.75,-2.2) 37(4.25,2.2) 38(4.25,-2.2) 39(4.75,2.2) 40(4.75,-2.2)
  round 1.5 hole 1 mask+0.075: MH1(-7.475,-1.15) MH2(7.475,-1.15)
  round 0 hole 1.5 unplated mask+0.1: ""(-6,0.85) ""(6,0.85)
Top Overlay:
  region: -5.507,2.807 -5.014,3.3 -6,3.3
  lines w0.2: -7.7,-2.1 ccw(c-7.2,-2.1) -7.2,-2.6 -5,-2.6 ; -7.7,-0.3 -7.7,2.1 cw(c-7.2,2.1) -7.2,2.6 -5,2.6 ; 5,-2.6 7.2,-2.6 ccw(c7.2,-2.1) 7.7,-2.1 ; 5,2.6 7.2,2.6 cw(c7.2,2.1) 7.7,2.1 7.7,-0.3
Mechanical 13:
  lines w0.1: -7.725,-2.49 7.725,-2.49 ; -7.725,2.49 7.725,2.49
3D body "LSHM-120-04.0-L-DV-A-S-K-TR.stp": height 5.6, standoff -1.65, extent -7.899,-2.49 7.899,2.49